# Altium footprint library Terminal_Blocks_PLC_7.62mm.PcbLib: 5 footprints
Each footprint in its own frame and in the unit in brackets; x right, y up, seen from the top. Pads: shape width x height; smd on the part's side, far side on the other; paste and mask are expansions set on the pad; w line width, h text height; cw(c..) or ccw(c..) is an arc to the next point about the centre after c.
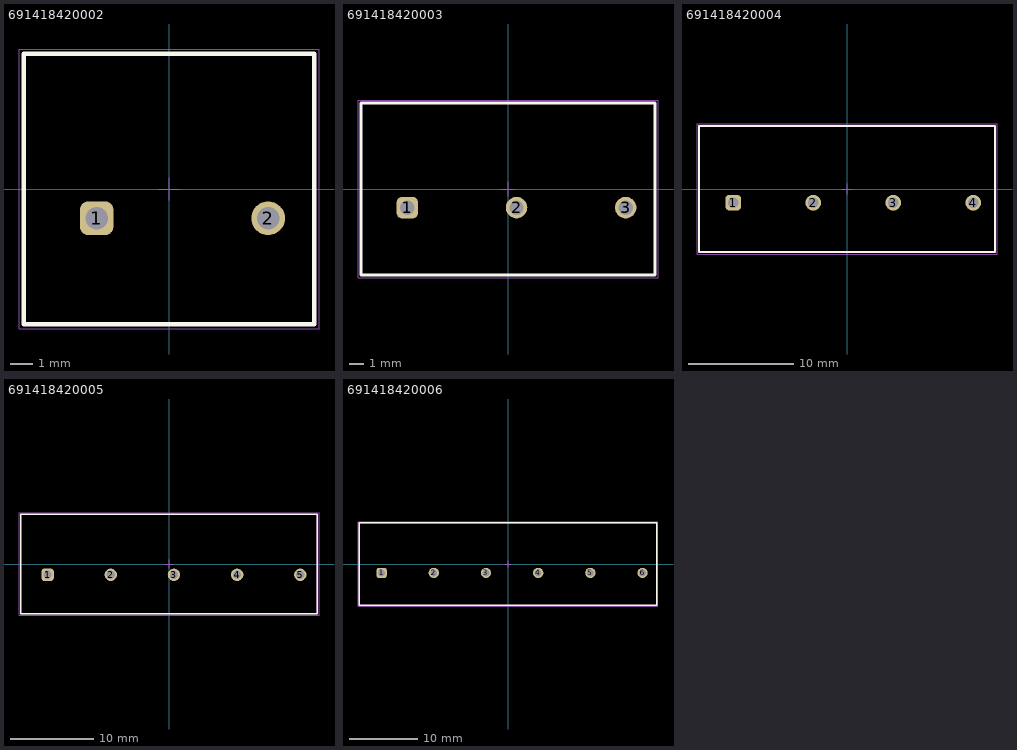
[diagram p0: the footprints below, top view; thin cyan lines are the x and y axes]

## 691418420002 [mm] "7.62 mm 45deg Entry Screwless, 2p"
height 13.2
pads (2):
  rrect50% 1.5x1.5 hole 1: 1(-3.215,-1.3)
  round 1.5 hole 1: 2(4.405,-1.3)
Top Overlay:
  lines w0.2: -6.465,-6 6.465,-6 6.465,6 -6.465,6 -6.465,-6
Top Designator:
  text ".Designator" at -7.498,-0.5 h1.5
Top Component Outline:
  lines w0.1: -6.465,-6 -6.465,6 6.465,6 6.465,-6 -6.465,-6
Top 3D Body:
  lines w0.1: -6.465,-6 6.465,-6 6.465,6 -6.465,6 -6.465,-6
Top Courtyard:
  lines w0.05: -6.665,-6.2 -6.665,6.2 6.665,6.2 6.665,-6.2 -6.665,-6.2
Top Component Center:
  lines w0.05: -0.5,0 0.5,0 ; 0,-0.5 0,0.5
3D body "691418420002.stp": height 13.28, standoff -3.52, extent -6.465,-6 6.465,6

## 691418420003 [mm] "7.62 mm 45deg Entry Screwless, 3p"
height 13.2
pads (3):
  rrect50% 1.5x1.5 hole 1: 1(-7.025,-1.3)
  round 1.5 hole 1: 2(0.595,-1.3) 3(8.215,-1.3)
Top Overlay:
  lines w0.2: -10.275,-6 10.275,-6 10.275,6 -10.275,6 -10.275,-6
Top Designator:
  text ".Designator" at -7.498,-0.5 h1.5
Top Component Outline:
  lines w0.1: -10.275,-6 -10.275,6 10.275,6 10.275,-6 -10.275,-6
Top 3D Body:
  lines w0.1: -10.275,-6 10.275,-6 10.275,6 -10.275,6 -10.275,-6
Top Courtyard:
  lines w0.05: -10.475,-6.2 -10.475,6.2 10.475,6.2 10.475,-6.2 -10.475,-6.2
Top Component Center:
  lines w0.05: -0.5,0 0.5,0 ; 0,-0.5 0,0.5
3D body "691418420003.stp": height 13.28, standoff -3.52, extent -10.275,-6 10.275,6

## 691418420004 [mm] "7.62 mm 45deg Entry Screwless, 4p"
height 13.2
pads (4):
  rrect50% 1.5x1.5 hole 1: 1(-10.835,-1.3)
  round 1.5 hole 1: 2(-3.215,-1.3) 3(4.405,-1.3) 4(12.025,-1.3)
Top Overlay:
  lines w0.2: -14.085,-6 -14.085,6 14.085,6 14.085,-6 -14.085,-6
Top Designator:
  text ".Designator" at -7.498,-0.5 h1.5
Top Component Outline:
  lines w0.1: -14.085,-6 14.085,-6 14.085,6 -14.085,6 -14.085,-6
Top 3D Body:
  lines w0.1: -14.085,-6 -14.085,6 14.085,6 14.085,-6 -14.085,-6
Top Courtyard:
  lines w0.05: -14.285,-6.2 14.285,-6.2 14.285,6.2 -14.285,6.2 -14.285,-6.2
Top Component Center:
  lines w0.05: -0.5,0 0.5,0 ; 0,-0.5 0,0.5
3D body "691418420004.stp": height 13.28, standoff -3.52, extent -14.085,-6 14.085,6

## 691418420005 [mm] "7.62 mm 45deg Entry Screwless, 5p"
height 13.2
pads (5):
  rrect50% 1.5x1.5 hole 1: 1(-14.645,-1.3)
  round 1.5 hole 1: 2(-7.025,-1.3) 3(0.595,-1.3) 4(8.215,-1.3) 5(15.835,-1.3)
Top Overlay:
  lines w0.2: -17.895,-6 17.895,-6 17.895,6 -17.895,6 -17.895,-6
Top Designator:
  text ".Designator" at -7.498,-0.5 h1.5
Top Component Outline:
  lines w0.1: -17.895,-6 -17.895,6 17.895,6 17.895,-6 -17.895,-6
Top 3D Body:
  lines w0.1: -17.895,-6 17.895,-6 17.895,6 -17.895,6 -17.895,-6
Top Courtyard:
  lines w0.05: -18.095,-6.2 -18.095,6.2 18.095,6.2 18.095,-6.2 -18.095,-6.2
Top Component Center:
  lines w0.05: -0.5,0 0.5,0 ; 0,-0.5 0,0.5
3D body "691418420005.stp": height 13.28, standoff -3.52, extent -17.895,-6 17.895,6

## 691418420006 [mm] "7.62 mm 45deg Entry Screwless, 6p"
height 13.2
pads (6):
  rrect50% 1.5x1.5 hole 1: 1(-18.455,-1.3)
  round 1.5 hole 1: 2(-10.835,-1.3) 3(-3.215,-1.3) 4(4.405,-1.3) 5(12.025,-1.3) 6(19.645,-1.3)
Top Overlay:
  lines w0.2: -21.705,-6 21.705,-6 21.705,6 -21.705,6 -21.705,-6
Top Designator:
  text ".Designator" at -7.498,-0.5 h1.5
Top Component Outline:
  lines w0.1: -21.705,-6 -21.705,6 21.705,6 21.705,-6 -21.705,-6
Top 3D Body:
  lines w0.1: -21.705,-6 21.705,-6 21.705,6 -21.705,6 -21.705,-6
Top Courtyard:
  lines w0.05: -21.905,-6.2 -21.905,6.2 21.905,6.2 21.905,-6.2 -21.905,-6.2
Top Component Center:
  lines w0.05: -0.5,0 0.5,0 ; 0,-0.5 0,0.5
3D body "691418420006.stp": height 13.28, standoff -3.52, extent -21.705,-6 21.705,6